# Altium schematic symbol library LED_GREEN_RED.SchLib: 1 symbol
Pins are listed as number, name and electrical type; pins without a type are passive.

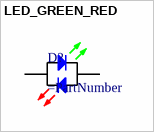
[diagram p0: symbol LED_GREEN_RED]

## LED_GREEN_RED
designator D?
pins: 1 A, 2 C